# EAGLE library part 629105150521 (library Eagle_WR-USB (rev25c))
WR-COM Micro USB 2.0 SMT Type B Horizontal 5 Contacts High Current Kind Properties Durability:10 000 Mating cycles Quality Class:10 000 Mating cycles Connector Type:Micro USB Gender:Receptacle Type:Horizontal General Information Operating Temperature:-40up to +105 °C Compliance:RoHS Electrical Properties IR 1:3A Working Voltage:30V (AC) Withstanding Voltage:100V (AC) Contact Resistance:30 mΩ Material Properties Insulator Material:LCP Insulator Flammability Rating:UL94 V-0 Color:Black Contact Material:Copper Alloy Contact Plating: Gold Contact Type:Stamped Shielding Material:Stainless Steel Shielding Plating:Nickel <https://www.we-online.com/catalog/media/o86333v209%20WR-COM_629105150521_family.jpg> Details see: www.we-online.com/en/components/products/COM_MICRO_SMT_TYPE_B_HORIZONTAL_HIGH_CURRENT <www.we-online.com/catalog/COM_MICRO_SMT_TYPE_B_HORIZONTAL_HIGH_CURRENT/?utm_source=eagle_model&utm_medium=description_link&utm_campaign=eisos_eagle> Updated by Ella Wu 2023-05-30 2023 (C) Würth Elektronik
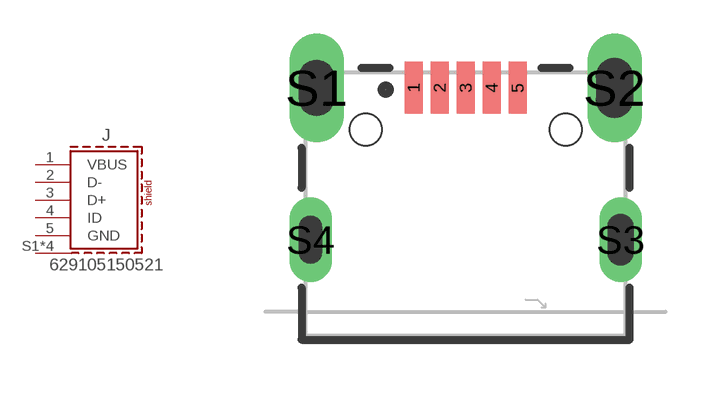
[diagram p19: symbol with the pads of 629105150521; footprint 629105150521]

Designator prefix J

## 629105150521 (APPLICATION: Micro USB 2.0; DATASHEET-URL: https://www.we-online.com/redexpert/spec/629105150521?ae; GERDER: Receptacle; INTERFACE-TYPE: Type B; IR: 3A; MOUNT: SMT; PACKAGING: Tape and Reel; PART-NUMBER: 629105150521; PINS: 5pcs; TYPE: Horizontal; VALUE: 629105150521; WORKING-VOLTAGE: 30VAC)  [629105150521]
1  VBUS  pas
2  D-  pas
3  D+  pas
4  ID  pas
5  GND  pas
S1  SHIELD  pas
S2  SHIELD  pas
S3  SHIELD  pas
S4  SHIELD  pas

## Footprint 629105150521 (pad centres in mm)
WR-COM Type B with Pegs, High Current at Pin 1 & Pin 5 Micro USB 2.0 SMT Type B Horizontal 5 Contacts High Current
smd 0.45 x 1.3: 1 -1.3,2.9; 2 -0.65,2.9; 3 0,2.9; 4 0.65,2.9; 5 1.3,2.9
drill 0.85 pad 1 long: S1 -3.725,2.9; S2 3.725,2.9
drill 0.55 pad 0.9 long: S3 3.875,-0.9; S4 -3.875,-0.9
hole 0.8 at -2.5,1.85
hole 0.8 at 2.5,1.85